# Altium schematic symbol library SCH - MCU - STM32 - ST MICROELECTRONICS STM32F091V(B-C)TX LQFP100.SchLib: 1 symbol
Pins are listed as number, name and electrical type; pins without a type are passive.

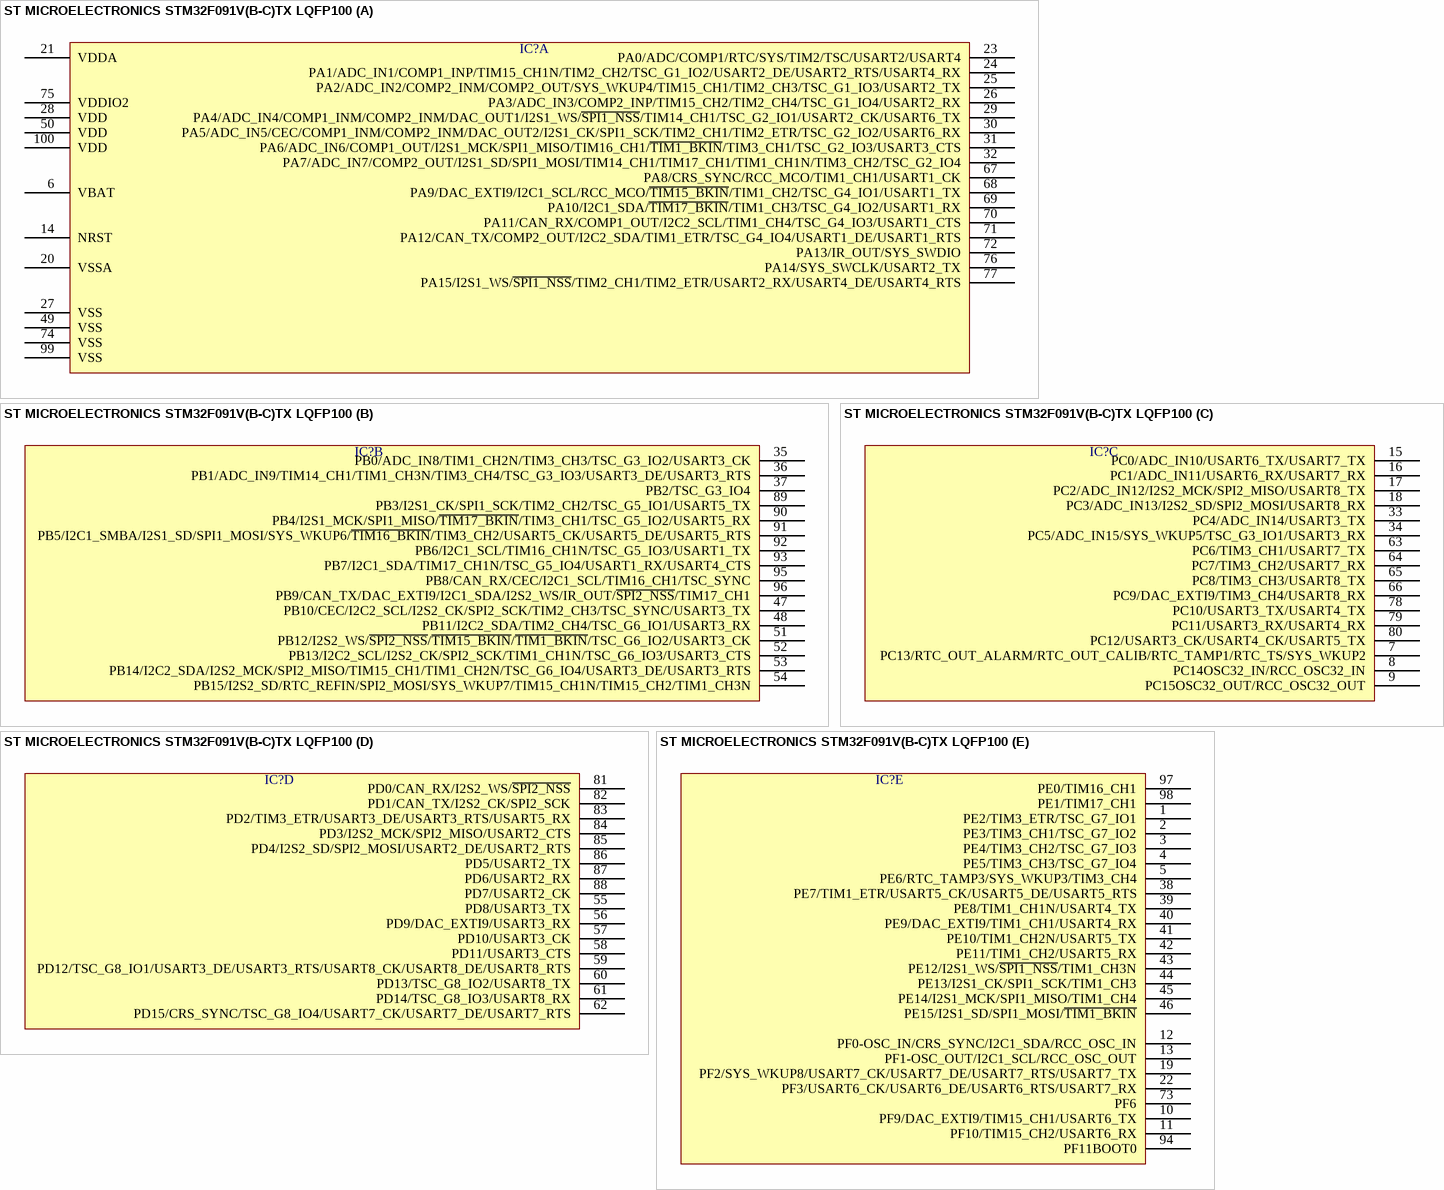
[diagram p0: symbol ST MICROELECTRONICS STM32F091V(B-C)TX LQFP100]

## ST MICROELECTRONICS STM32F091V(B-C)TX LQFP100
designator IC?  (value not drawn)
part A pins: 6 VBAT, 14 NRST, 20 VSSA, 21 VDDA, 23 PA0/ADC/COMP1/RTC/SYS/TIM2/TSC/USART2/USART4, 24 PA1/ADC_IN1/COMP1_INP/TIM15_CH1N/TIM2_CH2/TSC_G1_IO2/USART2_DE/USART2_RTS/USART4_RX, 25 PA2/ADC_IN2/COMP2_INM/COMP2_OUT/SYS_WKUP4/TIM15_CH1/TIM2_CH3/TSC_G1_IO3/USART2_TX, 26 PA3/ADC_IN3/COMP2_INP/TIM15_CH2/TIM2_CH4/TSC_G1_IO4/USART2_RX, 27 VSS, 28 VDD, 29 PA4/ADC_IN4/COMP1_INM/COMP2_INM/DAC_OUT1/I2S1_WS/~{SPI1_NSS}/TIM14_CH1/TSC_G2_IO1/USART2_CK/USART6_TX, 30 PA5/ADC_IN5/CEC/COMP1_INM/COMP2_INM/DAC_OUT2/I2S1_CK/SPI1_SCK/TIM2_CH1/TIM2_ETR/TSC_G2_IO2/USART6_RX, 31 PA6/ADC_IN6/COMP1_OUT/I2S1_MCK/SPI1_MISO/TIM16_CH1/~{TIM1_BKIN}/TIM3_CH1/TSC_G2_IO3/USART3_CTS, 32 PA7/ADC_IN7/COMP2_OUT/I2S1_SD/SPI1_MOSI/TIM14_CH1/TIM17_CH1/TIM1_CH1N/TIM3_CH2/TSC_G2_IO4, 49 VSS, 50 VDD, 67 PA8/CRS_SYNC/RCC_MCO/TIM1_CH1/USART1_CK, 68 PA9/DAC_EXTI9/I2C1_SCL/RCC_MCO/~{TIM15_BKIN}/TIM1_CH2/TSC_G4_IO1/USART1_TX, 69 PA10/I2C1_SDA/~{TIM17_BKIN}/TIM1_CH3/TSC_G4_IO2/USART1_RX, 70 PA11/CAN_RX/COMP1_OUT/I2C2_SCL/TIM1_CH4/TSC_G4_IO3/USART1_CTS, 71 PA12/CAN_TX/COMP2_OUT/I2C2_SDA/TIM1_ETR/TSC_G4_IO4/USART1_DE/USART1_RTS, 72 PA13/IR_OUT/SYS_SWDIO, 74 VSS, 75 VDDIO2, 76 PA14/SYS_SWCLK/USART2_TX, 77 PA15/I2S1_WS/~{SPI1_NSS}/TIM2_CH1/TIM2_ETR/USART2_RX/USART4_DE/USART4_RTS, 99 VSS, 100 VDD
part B pins: 35 PB0/ADC_IN8/TIM1_CH2N/TIM3_CH3/TSC_G3_IO2/USART3_CK, 36 PB1/ADC_IN9/TIM14_CH1/TIM1_CH3N/TIM3_CH4/TSC_G3_IO3/USART3_DE/USART3_RTS, 37 PB2/TSC_G3_IO4, 47 PB10/CEC/I2C2_SCL/I2S2_CK/SPI2_SCK/TIM2_CH3/TSC_SYNC/USART3_TX, 48 PB11/I2C2_SDA/TIM2_CH4/TSC_G6_IO1/USART3_RX, 51 PB12/I2S2_WS/~{SPI2_NSS}/~{TIM15_BKIN}/~{TIM1_BKIN}/TSC_G6_IO2/USART3_CK, 52 PB13/I2C2_SCL/I2S2_CK/SPI2_SCK/TIM1_CH1N/TSC_G6_IO3/USART3_CTS, 53 PB14/I2C2_SDA/I2S2_MCK/SPI2_MISO/TIM15_CH1/TIM1_CH2N/TSC_G6_IO4/USART3_DE/USART3_RTS, 54 PB15/I2S2_SD/RTC_REFIN/SPI2_MOSI/SYS_WKUP7/TIM15_CH1N/TIM15_CH2/TIM1_CH3N, 89 PB3/I2S1_CK/SPI1_SCK/TIM2_CH2/TSC_G5_IO1/USART5_TX, 90 PB4/I2S1_MCK/SPI1_MISO/~{TIM17_BKIN}/TIM3_CH1/TSC_G5_IO2/USART5_RX, 91 PB5/I2C1_SMBA/I2S1_SD/SPI1_MOSI/SYS_WKUP6/~{TIM16_BKIN}/TIM3_CH2/USART5_CK/USART5_DE/USART5_RTS, 92 PB6/I2C1_SCL/TIM16_CH1N/TSC_G5_IO3/USART1_TX, 93 PB7/I2C1_SDA/TIM17_CH1N/TSC_G5_IO4/USART1_RX/USART4_CTS, 95 PB8/CAN_RX/CEC/I2C1_SCL/TIM16_CH1/TSC_SYNC, 96 PB9/CAN_TX/DAC_EXTI9/I2C1_SDA/I2S2_WS/IR_OUT/~{SPI2_NSS}/TIM17_CH1
part C pins: 7 PC13/RTC_OUT_ALARM/RTC_OUT_CALIB/RTC_TAMP1/RTC_TS/SYS_WKUP2, 8 PC14OSC32_IN/RCC_OSC32_IN, 9 PC15OSC32_OUT/RCC_OSC32_OUT, 15 PC0/ADC_IN10/USART6_TX/USART7_TX, 16 PC1/ADC_IN11/USART6_RX/USART7_RX, 17 PC2/ADC_IN12/I2S2_MCK/SPI2_MISO/USART8_TX, 18 PC3/ADC_IN13/I2S2_SD/SPI2_MOSI/USART8_RX, 33 PC4/ADC_IN14/USART3_TX, 34 PC5/ADC_IN15/SYS_WKUP5/TSC_G3_IO1/USART3_RX, 63 PC6/TIM3_CH1/USART7_TX, 64 PC7/TIM3_CH2/USART7_RX, 65 PC8/TIM3_CH3/USART8_TX, 66 PC9/DAC_EXTI9/TIM3_CH4/USART8_RX, 78 PC10/USART3_TX/USART4_TX, 79 PC11/USART3_RX/USART4_RX, 80 PC12/USART3_CK/USART4_CK/USART5_TX
part D pins: 55 PD8/USART3_TX, 56 PD9/DAC_EXTI9/USART3_RX, 57 PD10/USART3_CK, 58 PD11/USART3_CTS, 59 PD12/TSC_G8_IO1/USART3_DE/USART3_RTS/USART8_CK/USART8_DE/USART8_RTS, 60 PD13/TSC_G8_IO2/USART8_TX, 61 PD14/TSC_G8_IO3/USART8_RX, 62 PD15/CRS_SYNC/TSC_G8_IO4/USART7_CK/USART7_DE/USART7_RTS, 81 PD0/CAN_RX/I2S2_WS/~{SPI2_NSS}, 82 PD1/CAN_TX/I2S2_CK/SPI2_SCK, 83 PD2/TIM3_ETR/USART3_DE/USART3_RTS/USART5_RX, 84 PD3/I2S2_MCK/SPI2_MISO/USART2_CTS, 85 PD4/I2S2_SD/SPI2_MOSI/USART2_DE/USART2_RTS, 86 PD5/USART2_TX, 87 PD6/USART2_RX, 88 PD7/USART2_CK
part E pins: 1 PE2/TIM3_ETR/TSC_G7_IO1, 2 PE3/TIM3_CH1/TSC_G7_IO2, 3 PE4/TIM3_CH2/TSC_G7_IO3, 4 PE5/TIM3_CH3/TSC_G7_IO4, 5 PE6/RTC_TAMP3/SYS_WKUP3/TIM3_CH4, 10 PF9/DAC_EXTI9/TIM15_CH1/USART6_TX, 11 PF10/TIM15_CH2/USART6_RX, 12 PF0-OSC_IN/CRS_SYNC/I2C1_SDA/RCC_OSC_IN, 13 PF1-OSC_OUT/I2C1_SCL/RCC_OSC_OUT, 19 PF2/SYS_WKUP8/USART7_CK/USART7_DE/USART7_RTS/USART7_TX, 22 PF3/USART6_CK/USART6_DE/USART6_RTS/USART7_RX, 38 PE7/TIM1_ETR/USART5_CK/USART5_DE/USART5_RTS, 39 PE8/TIM1_CH1N/USART4_TX, 40 PE9/DAC_EXTI9/TIM1_CH1/USART4_RX, 41 PE10/TIM1_CH2N/USART5_TX, 42 PE11/TIM1_CH2/USART5_RX, 43 PE12/I2S1_WS/~{SPI1_NSS}/TIM1_CH3N, 44 PE13/I2S1_CK/SPI1_SCK/TIM1_CH3, 45 PE14/I2S1_MCK/SPI1_MISO/TIM1_CH4, 46 PE15/I2S1_SD/SPI1_MOSI/~{TIM1_BKIN}, 73 PF6, 94 PF11BOOT0, 97 PE0/TIM16_CH1, 98 PE1/TIM17_CH1